# EAGLE library part WS2813 (library my_ic)
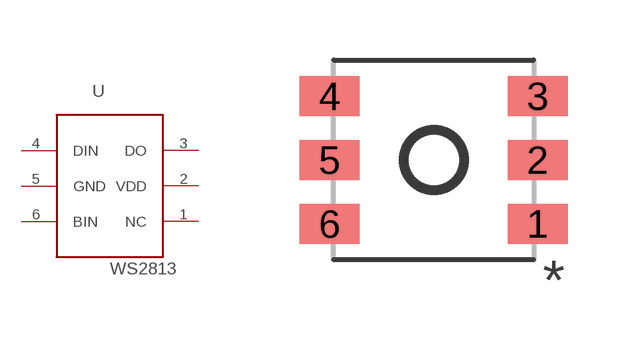
[diagram p37: symbol with the pads of 5050; footprint 5050]

Designator prefix -

## WS2813  [5050]
1  NC
2  VDD
3  DO
4  DIN
5  GND
6  BIN

## Footprint 5050 (pad centres in mm)
smd 1.5 x 1: 1 2.6,-1.6; 2 2.6,0; 3 2.6,1.6; 4 -2.6,1.6; 5 -2.6,0; 6 -2.6,-1.6